# Altium schematic symbol library STC12C5A60S2.Schlib: 1 symbol
Pins are listed as number, name and electrical type; pins without a type are passive.

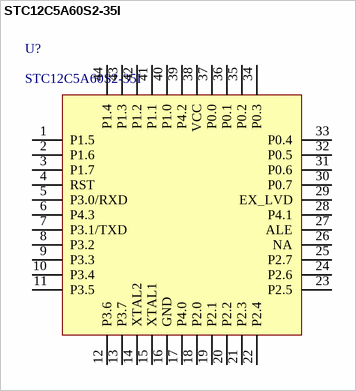
[diagram p0: symbol STC12C5A60S2-35I]

## STC12C5A60S2-35I
designator U?
MCU
footprint LQFP-44_10x10x08P
pins: 1 P1.5, 2 P1.6, 3 P1.7, 4 RST, 5 P3.0/RXD, 6 P4.3, 7 P3.1/TXD, 8 P3.2, 9 P3.3, 10 P3.4, 11 P3.5, 12 P3.6, 13 P3.7, 14 XTAL2, 15 XTAL1, 16 GND (power), 17 P4.0, 18 P2.0, 19 P2.1, 20 P2.2, 21 P2.3, 22 P2.4, 23 P2.5, 24 P2.6, 25 P2.7, 26 NA, 27 ALE, 28 P4.1, 29 EX_LVD, 30 P0.7, 31 P0.6, 32 P0.5, 33 P0.4, 34 P0.3, 35 P0.2, 36 P0.1, 37 P0.0, 38 VCC (power), 39 P4.2, 40 P1.0, 41 P1.1, 42 P1.2, 43 P1.3, 44 P1.4